# Altium footprint library MCU PCB Library.PcbLib: 6 footprints
Each footprint in its own frame and in the unit in brackets; x right, y up, seen from the top. Pads: shape width x height; smd on the part's side, far side on the other; paste and mask are expansions set on the pad; w line width, h text height; cw(c..) or ccw(c..) is an arc to the next point about the centre after c.
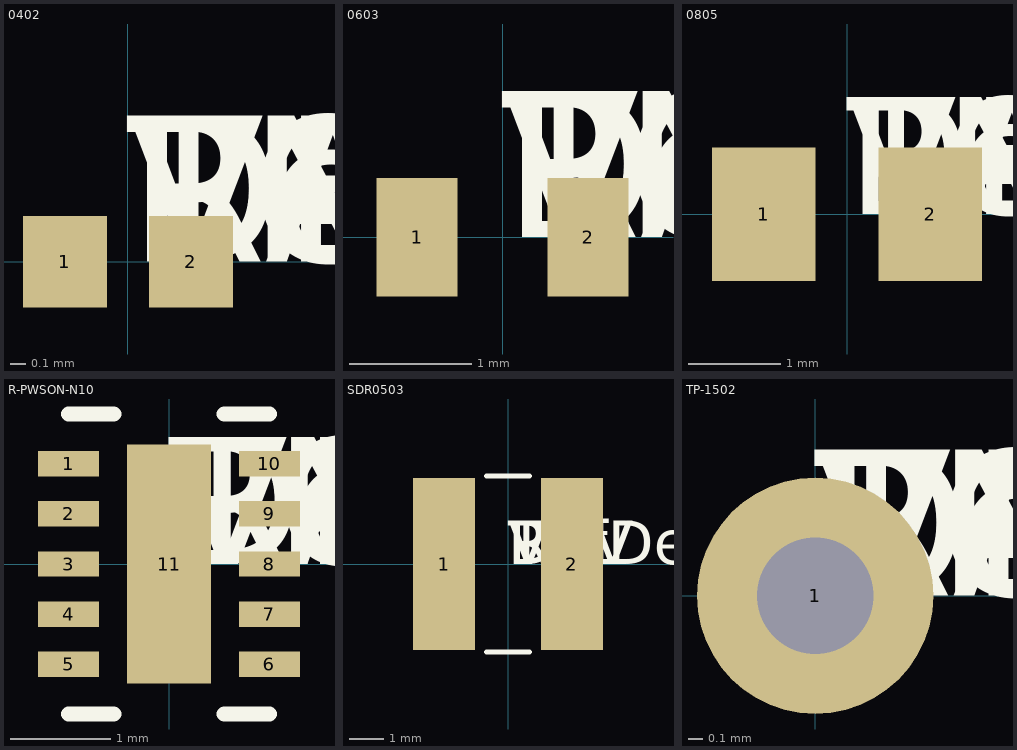
[diagram p0: the footprints below, top view; thin cyan lines are the x and y axes]

## 0402 [mil]
pads (2):
  rect 22x24 smd: 1(-16.5,0) 2(16.5,0)
Top Overlay:
  text "RefDes" at 0,0 h50
  text "DEV" at 0,0 h50
  text "PN" at 0,0 h50
  text "DEV" at 0,0 h50
  text "VAL" at 0,0 h50
  text "TOL" at 0,0 h50

## 0603 [mil]
pads (2):
  rect 26x38 smd: 1(-27.5,0) 2(27.5,0)
Top Overlay:
  text "RefDes" at 0,0 h50
  text "DEV" at 0,0 h50
  text "PN" at 0,0 h50
  text "DEV" at 0,0 h50
  text "VAL" at 0,0 h50
  text "TOL" at 0,0 h50

## 0805 [mil]
pads (2):
  rect 44x57 smd: 1(-35.5,0) 2(35.5,0)
Top Overlay:
  text "RefDes" at 0,0 h50
  text "DEV" at 0,0 h50
  text "PN" at 0,0 h50
  text "DEV" at 0,0 h50
  text "VAL" at 0,0 h50
  text "TOL" at 0,0 h50

## R-PWSON-N10 [mil]
pads (11):
  rect 24x10 smd paste-5: 1(-39.5,39.37) 2(-39.5,19.68) 3(-39.5,0) 4(-39.5,-19.68) 5(-39.5,-39.37) 6(39.5,-39.37) 7(39.5,-19.68) 8(39.5,0) 9(39.5,19.68) 10(39.5,39.37)
  rect 33x94 smd paste-46.5: 11(0,0)
Top Overlay:
  lines w6: -39.5,-59 -21.75,-59 ; -39.5,59 -21.75,59 ; 21.75,-59 39.5,-59 ; 21.75,59 39.5,59
  text "RefDes" at 0,0 h50
  text "DEV" at 0,0 h50
  text "PN" at 0,0 h50
  text "DEV" at 0,0 h50
  text "VAL" at 0,0 h50
  text "TOL" at 0,0 h50
Top Paste:
  region: 16.5,47 -16.5,47 -16.5,-47 16.5,-47

## SDR0503 [mil]
pads (2):
  rect 71x197 smd: 1(-73,0) 2(73,0)
Top Overlay:
  lines w6: -24.55,-100.5 24.55,-100.5 ; -24.55,100.5 24.55,100.5
  text "RefDes" at 0,0 h50
  text "DEV" at 0,0 h50
  text "PN" at 0,0 h50
  text "DEV" at 0,0 h50
  text "VAL" at 0,0 h50
  text "TOL" at 0,0 h50

## TP-1502 [mil]
pads (1):
  round 65 / inner round 60 / far side round 65 hole 32: 1(0,0)
Top Overlay:
  text "RefDes" at 0,0 h50
  text "DEV" at 0,0 h50
  text "PN" at 0,0 h50
  text "DEV" at 0,0 h50
  text "VAL" at 0,0 h50
  text "TOL" at 0,0 h50